# EAGLE library part AH8503-FDC-7 (library AH8503-FDC-7)
DIODES INC. - AH8503-FDC-7 - Hall Effect Sensor, Linear, 400 A, U-DFN2020, 6 Pins, 1.6 V, 3.6 V Source: Datasheet <https://www.diodes.com//assets/Datasheets/AH8503.pdf>
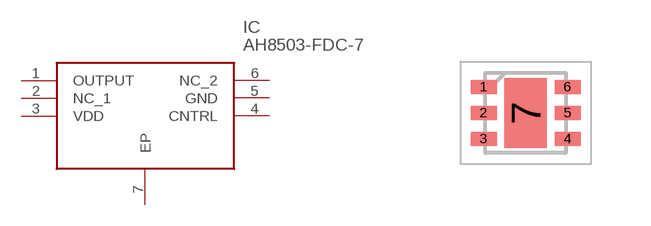
[diagram p0: symbol with the pads of SON65P201X201X63-7N; footprint SON65P201X201X63-7N]

Designator prefix IC

## AH8503-FDC-7 (Description: DIODES INC. - AH8503-FDC-7 - Hall Effect Sensor, Linear, 400 A, U-DFN2020, 6 Pins, 1.6 V, 3.6 V; Height: 0.63mm; Manufacturer_Name: Diodes Incorporated; Manufacturer_Part_Number: AH8503-FDC-7; Mouser_Part_Number: 621-AH8503-FDC-7; Mouser_Price-Stock: https://www.mouser.co.uk/ProductDetail/Diodes-Incorporated/AH8503-FDC-7?qs=vJF2aRtctcByoAIcmr18Pg%3D%3D)  [SON65P201X201X63-7N]
1  OUTPUT
2  NC_1
3  VDD
4  CNTRL
5  GND
6  NC_2
7  EP

## Footprint SON65P201X201X63-7N (pad centres in mm)
U-DFN2020-6
smd 0.65 x 0.35: 1 -1.05,0.65; 2 -1.05,0; 3 -1.05,-0.65; 4 1.05,-0.65; 5 1.05,0; 6 1.05,0.65
smd 1.06 x 1.75: 7 0,0